# Altium footprint library BOOSTXL-DRV8301.PcbLib: 21 footprints (part 2 of 2)
Each footprint in its own frame and in the unit in brackets; x right, y up, seen from the top. Pads: shape width x height; smd on the part's side, far side on the other; paste and mask are expansions set on the pad; w line width, h text height; cw(c..) or ccw(c..) is an arc to the next point about the centre after c.
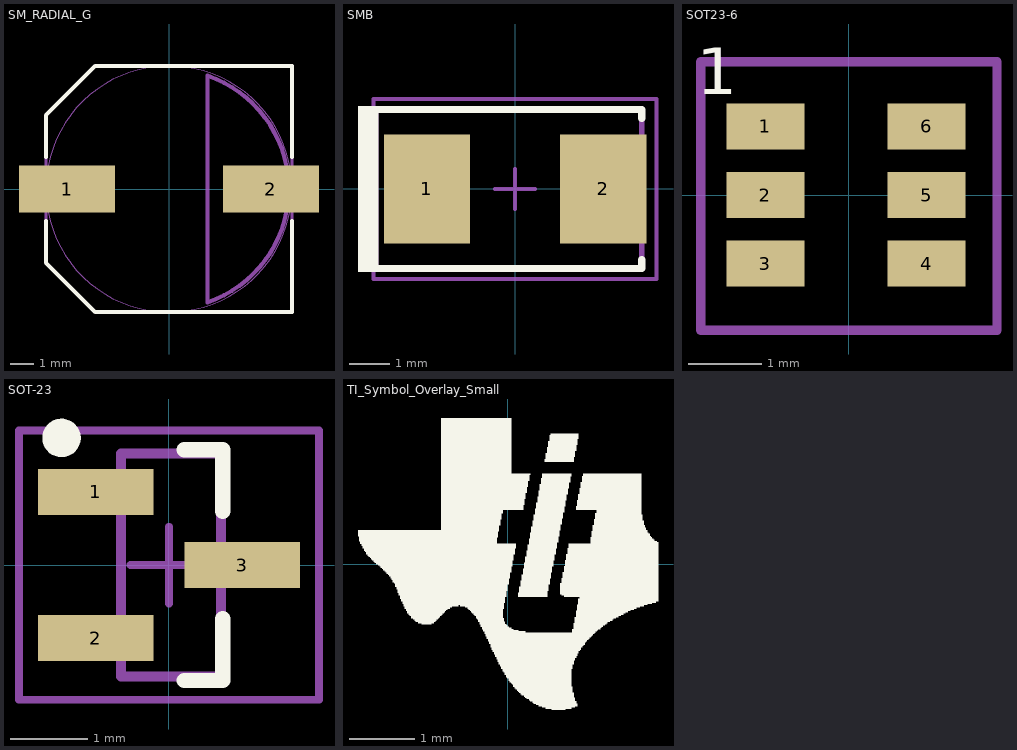
[diagram p1: the footprints below, top view; thin cyan lines are the x and y axes]

## SM_RADIAL_G [mm]
pads (2):
  rect 4.1x2 smd: 1(-4.35,0) 2(4.35,0)
Top Overlay:
  lines w0.178: -5.25,-1.362 -5.25,-3.15 -3.15,-5.25 5.251,-5.25 ; -5.25,1.362 -5.25,3.15 -3.15,5.25 5.251,5.25 ; 5.25,-5.253 5.25,-1.366 ; 5.25,1.366 5.25,5.253
Mechanical 5:
  lines w0.127: 5.25,-5.25 5.25,5.253 ; 5.251,-5.25 -3.15,-5.25 -5.25,-3.15 -5.25,3.15 -3.15,5.25 5.251,5.25
  text ".Designator" at -1.7,-0.5 h1.02
Mechanical 13:
  circle w0.001: c0,0 r5.25
  lines w0.178: 1.638,4.837 cw(c0,0) 1.641,-4.836 ; 1.642,-4.836 1.642,4.837
3D body: height 10.5, standoff 10.4, extent 1.642,-4.835 5.117,4.835
3D body: height 10.5, standoff 0.1, extent -5.261,-5.261 5.261,5.261
3D body: height 0.6, standoff 0, extent -5.251,-5.254 5.252,5.254

## SMB [mil]
pads (2):
  rect 85x107.99 smd: 1(-87.01,0) 2(87.01,0)
Top Overlay:
  rectangle: -155,-82 -135,82
  lines w7: -142,-78.5 125,-78.5 125,-69.5 ; -142,78.5 125,78.5 125,69.5
Mechanical 5:
  rectangle: -155,-82 -135,82
  lines w5: -142,-78.5 125,-78.5 125,-69.5 125,69.5 125,78.5 -142,78.5
  text ".Designator" at -91,-20 h40
Mechanical 15:
  lines w3.94: -19.68,0 19.69,0 ; 0,-19.69 0,19.68 ; -139.76,-88.58 -139.76,88.58 139.76,88.58 139.76,-88.58 -139.76,-88.58
3D body: height 91.35, standoff 0.6, extent -106.3,-70.86 106.3,70.87

## SOT23-6 [mil]
pads (6):
  rect 42x25 smd: 1(-45,37) 2(-45,0) 3(-45,-37) 4(42,-37) 5(42,0) 6(42,37)
Top Overlay:
  text "1" at -81.98,54.5 h25
Mechanical 5:
  lines w5: -80,-73 80,-73 80,72 -80,72 -80,-73
  text ".Designator" at -73,-20 h40
  text "*" at -70,40 h25

## SOT-23 [mm]
pads (3):
  rect 1.5x0.6 smd: 1(-0.95,0.95) 2(-0.95,-0.95) 3(0.95,0)
Top Overlay:
  circle w0.25: c-1.397,1.653 r0.125
  lines w0.2: 0.2,-1.5 0.7,-1.5 0.7,-0.7 ; 0.2,1.5 0.7,1.5 0.7,0.7
Mechanical 5:
  lines w0.127: -1.16,-1.15 -0.625,-1.15 -0.625,-1.45 0.675,-1.45 0.675,-0.2 1.21,-0.2 1.21,0.2 0.675,0.2 0.675,1.45 -0.625,1.45 -0.625,1.15 -1.16,1.15 -1.16,0.75 -0.625,0.75 -0.625,-0.75 -1.16,-0.75 -1.16,-1.15
  text ".Designator" at -0.175,1.225 h0.64
Mechanical 15:
  lines w0.1: -0.5,0 0.5,0 ; 0,-0.5 0,0.5 ; -1.95,-1.75 -1.95,1.75 1.95,1.75 1.95,-1.75 -1.95,-1.75
3D body: height 1, standoff 0, extent -1.16,-1.45 1.21,1.45

## TI_Symbol_Overlay_Small [mil]
Top Overlay:
  drawing of 3 lines, arcs and shapes, not listed